# EAGLE library part DF9-41S-1V(32) (library dsantoro-conn)
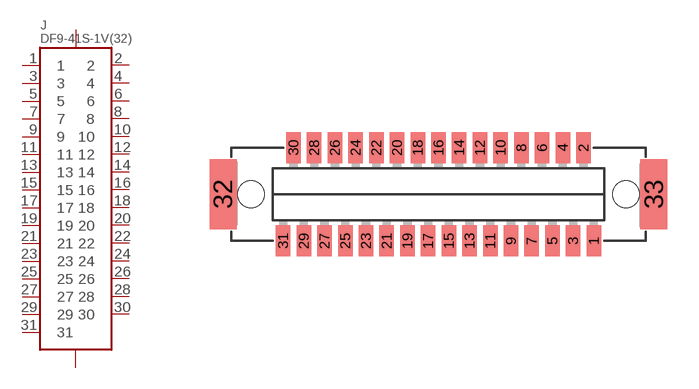
[diagram p3: symbol with the pads of DF9-41S-1V(32); footprint DF9-41S-1V(32)]

Designator prefix J

## DF9-41S-1V(32)  [DF9-41S-1V(32)]
1  1
2  2
3  3
4  4
5  5
6  6
7  7
8  8
9  9
10  10
11  11
12  12
13  13
14  14
15  15
16  16
17  17
18  18
19  19
20  20
21  21
22  22
23  23
24  24
25  25
26  26
27  27
28  28
29  29
30  30
31  31
32  32
33  33

## Footprint DF9-41S-1V(32) (pad centres in mm)
smd 0.7 x 1.5: 1 15,0; 2 14.5,4.5; 3 14,0; 4 13.5,4.5; 5 13,0; 6 12.5,4.5; 7 12,0; 8 11.5,4.5; 9 11,0; 10 10.5,4.5; 11 10,0; 12 9.5,4.5; 13 9,0; 14 8.5,4.5; 15 8,0; 16 7.5,4.5; 17 7,0; 18 6.5,4.5; 19 6,0; 20 5.5,4.5; 21 5,0; 22 4.5,4.5; 23 4,0; 24 3.5,4.5; 25 3,0; 26 2.5,4.5; 27 2,0; 28 1.5,4.5; 29 1,0; 30 0.5,4.5; 31 0,0
smd 1.3 x 3.4: 32 -2.9,2.25; 33 17.9,2.25
hole 1.3 at -1.55,2.25
hole 1.3 at 16.55,2.25